# Altium footprint library AQ1250-01ETG.PcbLib: 3 footprints
Each footprint in its own frame and in the unit in brackets; x right, y up, seen from the top. Pads: shape width x height; smd on the part's side, far side on the other; paste and mask are expansions set on the pad; w line width, h text height; cw(c..) or ccw(c..) is an arc to the next point about the centre after c.
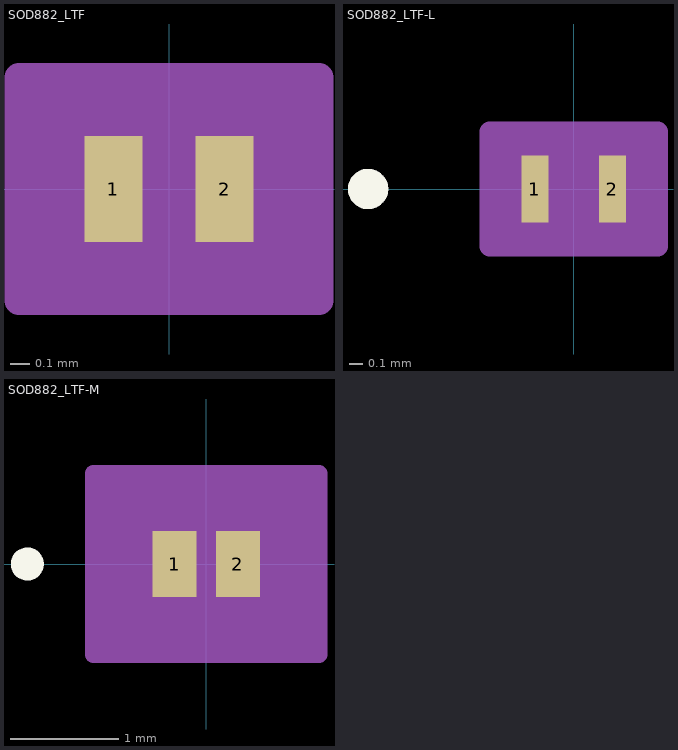
[diagram p0: the footprints below, top view; thin cyan lines are the x and y axes]

## SOD882_LTF [mil]
pads (2):
  rect 12x22 smd paste+0 mask-1: 1(-11.5,0) 2(11.5,0)
Top Overlay:
  text ".Designator" at -137.5,-25 h50
Mechanical 13:
  circle w1: c0,0 r0
  lines w1: -21,-13 21,-13 21,13 -21,13 -21,-13
  text ".Designator" at -137.5,-25 h50
Mechanical 15:
  region: -31,-21 -31,21 -31,23 31,23 31,21 31,-21 31,-23 -31,-23
  lines w6: -31,-21 -31,21 ; -31,-21 -31,-21 ; -31,-21 -31,-23 31,-23 31,-21 ; -31,21 -31,21 ; -31,21 -31,23 31,23 31,21 ; 31,-21 31,21 ; 31,-21 31,-21 ; 31,21 31,21
3D body "SOD882_LTF.step": height 17.09, standoff 0, extent -20.98,-12.99 20.98,12.99

## SOD882_LTF-L [mil]
pads (2):
  rect 8x20 smd paste+0 mask+0: 1(-11.5,0) 2(11.5,0)
Top Overlay:
  circle w6: c-61,0 r3
  text ".Designator" at -137.5,-25 h50
Mechanical 13:
  circle w1: c0,0 r3
  lines w1: -21,-13 21,-13 21,13 -21,13 -21,-13
  text ".Designator" at -137.5,-25 h50
Mechanical 15:
  region: -25,-14 -25,14 -25,17 25,17 25,14 25,-14 25,-17 -25,-17
  lines w6: -25,-14 -25,14 ; -25,-14 -25,-14 ; -25,-14 -25,-17 25,-17 25,-14 ; -25,14 -25,14 ; -25,14 -25,17 25,17 25,14 ; 25,-14 25,14 ; 25,-14 25,-14 ; 25,14 25,14
3D body "SOD882_LTF.step": height 17.09, standoff 0, extent -20.98,-12.99 20.98,12.99

## SOD882_LTF-M [mil]
pads (2):
  rect 16x24 smd paste+0 mask+0: 1(-11.5,0) 2(11.5,0)
Top Overlay:
  circle w6: c-65,0 r3
  text ".Designator" at -137.5,-25 h50
Mechanical 13:
  circle w1: c0,0 r3
  lines w1: -21,-13 21,-13 21,13 -21,13 -21,-13
  text ".Designator" at -137.5,-25 h50
Mechanical 15:
  region: -41,-32 -41,32 -41,33 41,33 41,32 41,-32 41,-33 -41,-33
  lines w6: -41,-32 -41,32 ; -41,-32 -41,-32 ; -41,-32 -41,-33 41,-33 41,-32 ; -41,32 -41,32 ; -41,32 -41,33 41,33 41,32 ; 41,-32 41,32 ; 41,-32 41,-32 ; 41,32 41,32
3D body "SOD882_LTF.step": height 17.09, standoff 0, extent -20.98,-12.99 20.98,12.99